# Altium footprint library libreriaPcb.PcbLib: 683 footprints (part 19 of 44)
Each footprint in its own frame and in the unit in brackets; x right, y up, seen from the top. Pads: shape width x height; smd on the part's side, far side on the other; paste and mask are expansions set on the pad; w line width, h text height; cw(c..) or ccw(c..) is an arc to the next point about the centre after c.
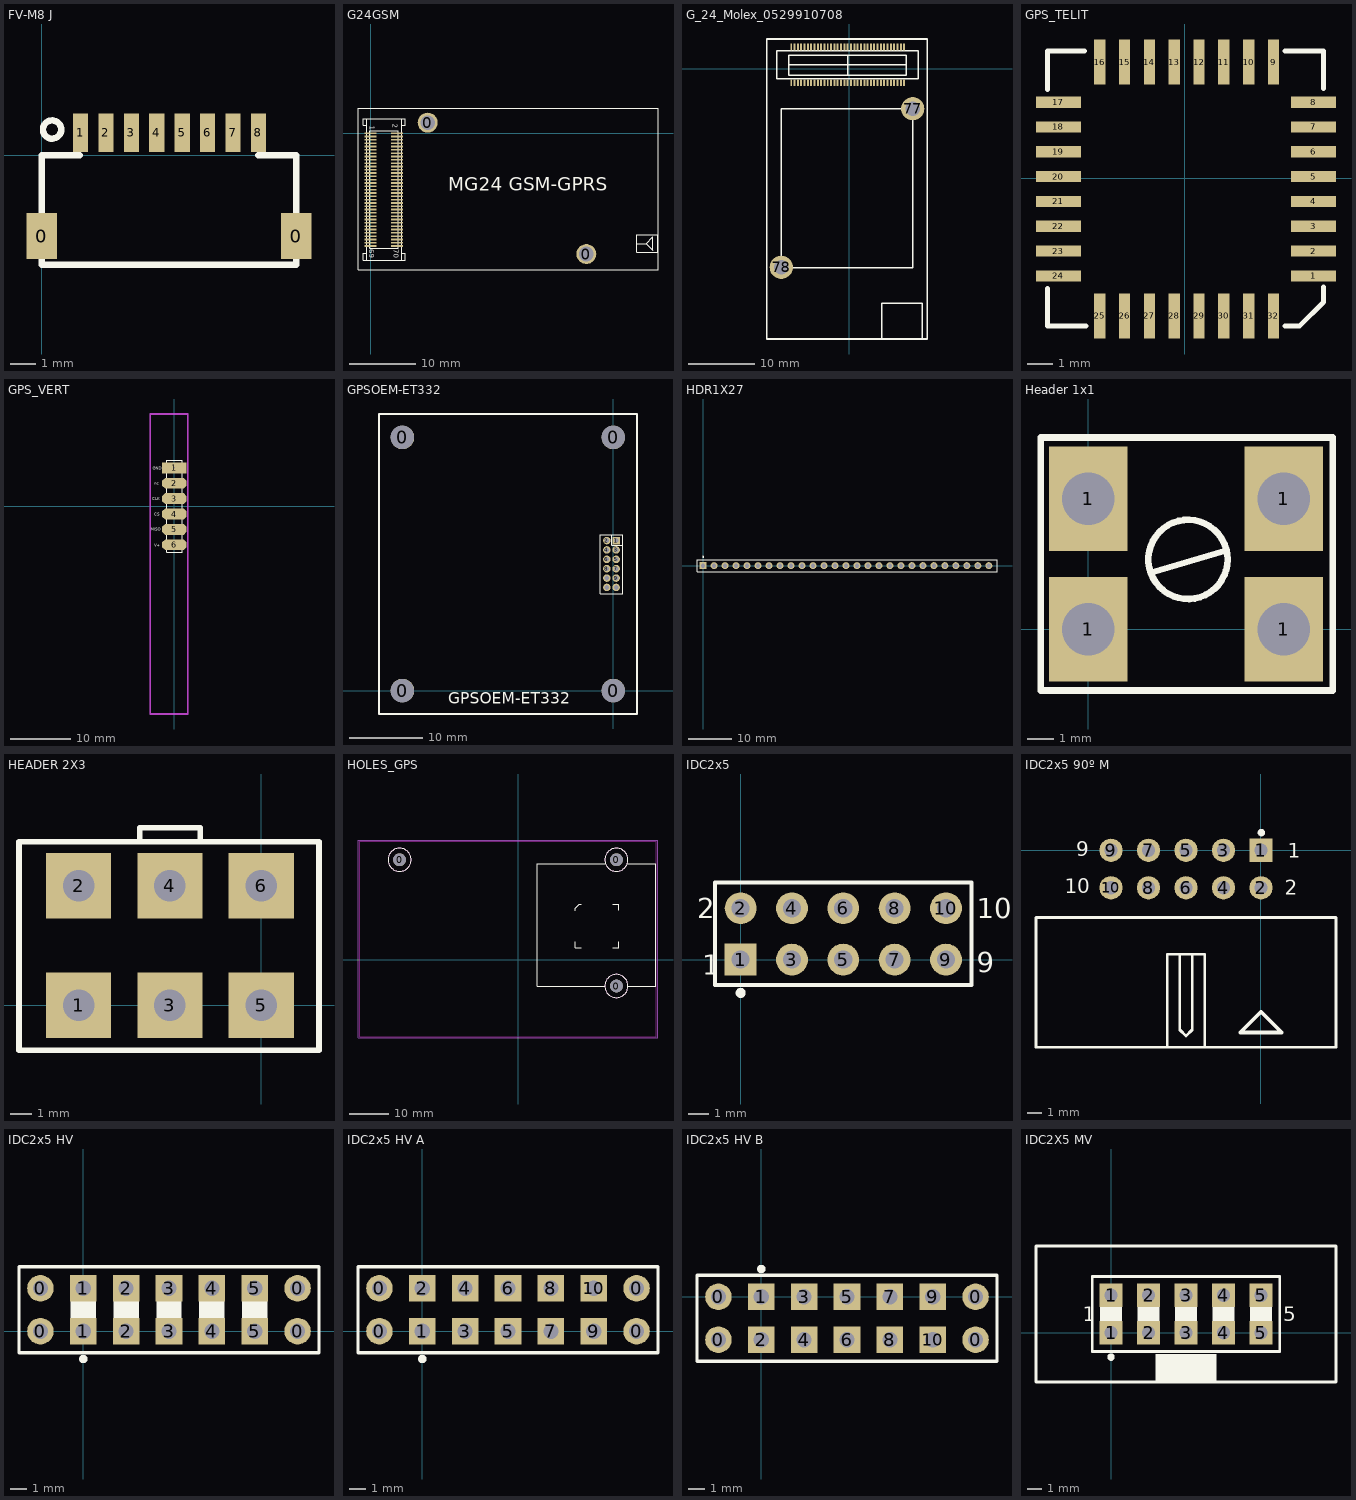
[diagram p18: the footprints below, top view; thin cyan lines are the x and y axes]

## FV-M8 J [mil] "Modulo GPS&Antena CONECTOR"
pads (10):
  rect 47.24x70.87 smd: 0(0,-125) 0(394.06,-125)
  rect 23.62x60 smd: 1(60,35) 2(99.37,35) 3(138.74,35) 4(178.11,35) 5(217.48,35) 6(256.85,35) 7(296.22,35) 8(335.59,35)
Top Overlay:
  circle w10: c15.86,40 r14.14
  lines w10: 59.06,0 0,0 0,-169.29 394.06,-169.29 394.06,0 335,0

## G24GSM [mm]
pads (72):
  round 3 hole 2.2: 0(8.6,1.6) 0(32.5,-18.2)
  rect 1.8x0.25 smd: 1(0,0) 2(4,0) 3(0,-0.5) 4(4,-0.5) 5(0,-1) 6(4,-1) 7(0,-1.5) 8(4,-1.5) 9(0,-2) 10(4,-2) 11(0,-2.5) 12(4,-2.5) 13(0,-3) 14(4,-3) 15(0,-3.5) 16(4,-3.5) 17(0,-4) 18(4,-4) 19(0,-4.5) 20(4,-4.5) 21(0,-5) 22(4,-5) 23(0,-5.5) 24(4,-5.5) 25(0,-6) 26(4,-6) 27(0,-6.5) 28(4,-6.5) 29(0,-7) 30(4,-7) 31(0,-7.5) 32(4,-7.5) 33(0,-8) 34(4,-8) 35(0,-8.5) 36(4,-8.5) 37(0,-9) 38(4,-9) 39(0,-9.5) 40(4,-9.5) 41(0,-10) 42(4,-10) 43(0,-10.5) 44(4,-10.5) 45(0,-11) 46(4,-11) 47(0,-11.5) 48(4,-11.5) 49(0,-12) 50(4,-12) 51(0,-12.5) 52(4,-12.5) 53(0,-13) 54(4,-13) 55(0,-13.5) 56(4,-13.5) 57(0,-14) 58(4,-14) 59(0,-14.5) 60(4,-14.5) 61(0,-15) 62(4,-15) 63(0,-15.5) 64(4,-15.5) 65(0,-16) 66(4,-16) 67(0,-16.5) 68(4,-16.5) 69(0,-17) 70(4,-17)
Top Overlay:
  lines w0.1: 40.1,-16.637 41.529,-16.637 ; -0.6,-19.1 4.7,-19.1 ; -0.6,-19.1 -1.1,-19.1 -1.1,-18.1 -0.6,-18.1 -0.6,-19.1 ; -0.6,-19.1 -0.6,2.2 ; -0.6,2.2 4.7,2.2 ; -0.6,2.2 -1.1,2.2 -1.1,1.2 -0.6,1.2 -0.6,2.2 ; 4.7,-19.1 5.2,-19.1 5.2,-18.1 4.7,-18.1 4.7,-19.1 ; 4.7,-19.1 4.7,2.2 ; 4.7,2.2 5.2,2.2 5.2,1.2 4.7,1.2 4.7,2.2 ; 41.529,-16.637 42.545,-15.621 42.545,-17.653 41.529,-16.637 ; -1.9,-20.6 43.3,-20.6 43.3,3.8 -1.9,3.8 -1.9,-20.6 ; -0.1,-17.3 4.2,-17.3 4.2,0.4 -0.1,0.4 -0.1,-17.3 ; 40.1,-17.9 43.3,-17.9 43.3,-15.3 40.1,-15.3 40.1,-17.9
  text "2" at 3.3,1.4 h0.76
  text "1" at -0.1,1.1 h0.76
  text "70" at 3.5,-17.5 h0.76
  text "69" at -0.2,-17.5 h0.76
  text "MG24 GSM-GPRS" at 11.684,-8.636 h2.03

## G_24_Molex_0529910708 [mm]
pads (72):
  rect 0.3x1 smd: 1(8.25,3.25) 2(8.25,-2.15) 3(7.75,3.25) 4(7.75,-2.15) 5(7.25,3.25) 6(7.25,-2.15) 7(6.75,3.25) 8(6.75,-2.15) 9(6.25,3.25) 10(6.25,-2.15) 11(5.75,3.25) 12(5.75,-2.15) 13(5.25,3.25) 14(5.25,-2.15) 15(4.75,3.25) 16(4.75,-2.15) 17(4.25,3.25) 18(4.25,-2.15) 19(3.75,3.25) 20(3.75,-2.15) 21(3.25,3.25) 22(3.25,-2.15) 23(2.75,3.25) 24(2.75,-2.15) 25(2.25,3.25) 26(2.25,-2.15) 27(1.75,3.25) 28(1.75,-2.15) 29(1.25,3.25) 30(1.25,-2.15) 31(0.75,3.25) 32(0.75,-2.15) 33(0.25,3.25) 34(0.25,-2.15) 35(-0.25,3.25) 36(-0.25,-2.15) 37(-0.75,3.25) 38(-0.75,-2.15) 39(-1.25,3.25) 40(-1.25,-2.15) 41(-1.75,3.25) 42(-1.75,-2.15) 43(-2.25,3.25) 44(-2.25,-2.15) 45(-2.75,3.25) 46(-2.75,-2.15) 47(-3.25,3.25) 48(-3.25,-2.15) 49(-3.75,3.25) 50(-3.75,-2.15) 51(-4.25,3.25) 52(-4.25,-2.15) 53(-4.75,3.25) 54(-4.75,-2.15) 55(-5.25,3.25) 56(-5.25,-2.15) 57(-5.75,3.25) 58(-5.75,-2.15) 59(-6.25,3.25) 60(-6.25,-2.15) 61(-6.75,3.25) 62(-6.75,-2.15) 63(-7.25,3.25) 64(-7.25,-2.15) 65(-7.75,3.25) 66(-7.75,-2.15) 67(-8.25,3.25) 68(-8.25,-2.15) 69(-8.75,3.25) 70(-8.75,-2.15)
  round 3.5 hole 2.2: 77(9.55,-6.05) 78(-10.25,-29.95)
Top Overlay:
  lines w0.2: -9.1,0.55 8.6,0.55 ; -0.25,-1 -0.25,2 ; -10.9,-1.55 -9.1,-1.55 8.6,-1.55 10.4,-1.55 10.4,2.65 8.6,2.65 -9.1,2.65 -10.9,2.65 -10.9,-1.55 ; -9.1,-1 -9.1,0 -9.1,2 8.6,2 8.6,-1 -9.1,-1
  lines w0.254: 4.9,-40.75 4.9,-35.35 7.95,-35.35 11,-35.35 11,-40.7 ; -12.45,-40.75 -12.45,-6.05 -12.45,4.45 -10.25,4.45 -2.05,4.45 11.75,4.45 11.75,-40.75 -12.45,-40.75 ; -10.25,-29.95 -10.2,-30 9.55,-30 9.55,-6.05 -10.25,-6.05 -10.25,-29.95
3D body: height 3, standoff 1.6, extent -12.577,-40.877 11.877,4.577

## GPS_TELIT [mm]
pads (32):
  rect 1.8x0.45 smd: 1(5.154,-3.907) 2(5.154,-2.914) 3(5.154,-1.921) 4(5.154,-0.928) 5(5.154,0.064) 6(5.154,1.057) 7(5.154,2.05) 8(5.154,3.043) 17(-5.046,3.043) 18(-5.046,2.05) 19(-5.046,1.057) 20(-5.046,0.064) 21(-5.046,-0.928) 22(-5.046,-1.921) 23(-5.046,-2.914) 24(-5.046,-3.907)
  rect 0.45x1.8 smd: 9(3.554,4.643) 10(2.561,4.643) 11(1.568,4.643) 12(0.575,4.643) 13(-0.417,4.643) 14(-1.41,4.643) 15(-2.403,4.643) 16(-3.396,4.643) 25(-3.396,-5.507) 26(-2.403,-5.507) 27(-1.41,-5.507) 28(-0.417,-5.507) 29(0.575,-5.507) 30(1.568,-5.507) 31(2.561,-5.507) 32(3.554,-5.507)
Top Overlay:
  lines w0.2: -5.496,-4.407 -5.496,-5.907 -3.946,-5.907 ; -5.496,3.543 -5.496,5.093 -3.996,5.093 ; 4.004,-5.907 4.604,-5.907 5.554,-4.957 5.554,-4.357 ; 4.004,5.093 5.554,5.093 5.554,3.593
3D body: height 2, standoff 0.2, extent -5.446,-5.907 5.554,5.093
3D body: height 6.1, standoff 1.2, extent -4.096,-4.407 4.154,3.593

## GPS_VERT [mm]
pads (6):
  rect 4x1.8 hole 0.2: 1(0,6.35)
  oct 4x1.8 hole 0.25: 2(0,3.81) 3(0,1.27) 4(0,-1.27) 5(0,-3.81) 6(0,-6.35)
Top Overlay:
  lines w0.2: -1.27,-7.62 1.27,-7.62 1.27,7.62 -1.27,7.62 -1.27,-7.62
  text "V+" at -3.277,-6.706 h0.5
  text "MISO" at -3.861,-4.039 h0.5
  text "CS" at -3.277,-1.524 h0.5
  text "CLK" at -3.683,0.991 h0.5
  text "nc" at -3.353,3.581 h0.5
  text "GND" at -3.581,6.045 h0.5
Mechanical 1 keep-out:
  lines w0.254: -3.988,-34.29 -3.988,15.24 2.235,15.24 2.235,-34.29 -3.988,-34.29
3D body: height 2, standoff 0.2, extent -1.25,-7.595 1.25,-0.02
3D body: height 2, standoff 0.2, extent -1.25,0.025 1.25,7.6
3D body: height 10, standoff -1, extent -0.399,-6.75 0.399,-5.953
3D body: height 10, standoff -1, extent -0.399,-4.21 0.399,-3.413
3D body: height 10, standoff -1, extent -0.399,-1.67 0.399,-0.873
3D body: height 10, standoff -1, extent -0.399,0.87 0.399,1.667
3D body: height 10, standoff -1, extent -0.399,3.41 0.399,4.207
3D body: height 10, standoff -1, extent -0.399,5.95 0.399,6.747

## GPSOEM-ET332 [mil] "GPS"
pads (16):
  round 125 hole 125: 0(-1125,0) 0(-1125,1350) 0(0,0) 0(0,1350)
  rect 40x40 hole 25.59: 1(15,800)
  round 40 hole 25.59: 2(-35,800) 3(15,750) 4(-35,750) 5(15,700) 6(-35,700) 7(15,650) 8(-35,650) 9(15,600) 10(-35,600) 11(15,550) 12(-35,550)
Top Overlay:
  lines w5: -10,830 -10,775 50,775 ; -70,515 50,515 50,830 -70,830 -70,515
  lines w10: -1249.02,-125 125,-125 125,1475 -1249.02,1475 -1249.02,-125
  text "GPSOEM-ET332" at -880,-70 h60

## HDR1X27 [mm]
pads (27):
  rect 1.6x1.6 hole 0.99: 1(0,0)
  round 1.6 hole 0.99: 2(2.54,0) 3(5.08,0) 4(7.62,0) 5(10.16,0) 6(12.7,0) 7(15.24,0) 8(17.78,0) 9(20.32,0) 10(22.86,0) 11(25.4,0) 12(27.94,0) 13(30.48,0) 14(33.02,0) 15(35.56,0) 16(38.1,0) 17(40.64,0) 18(43.18,0) 19(45.72,0) 20(48.26,0) 21(50.8,0) 22(53.34,0) 23(55.88,0) 24(58.42,0) 25(60.96,0) 26(63.5,0) 27(66.04,0)
Top Overlay:
  circle w0.25: c0,2.05 r0.125
  lines w0.2: -1.4,-1.4 67.92,-1.4 67.92,1.4 -1.4,1.4 -1.4,-1.4

## Header 1x1 [mm]
pads (4):
  rect 3x4 hole 2: 1(0,0) 1(0,5) 1(7.5,0) 1(7.5,5)
Top Overlay:
  circle w0.254: c3.825,2.675 r1.519
  lines w0.254: 2.425,2.175 5.225,3 ; -1.825,-2.35 -1.825,7.35 9.375,7.35 9.375,-2.35 -1.825,-2.35
3D body: height 6, standoff 0, extent -1.15,-2.4 1.25,7.475
3D body: height 6, standoff 0, extent 6.375,-2.4 8.775,7.475
3D body: height 7, standoff 6, extent -1.15,-2.4 8.775,7.475
3D body: height 8, standoff 7, extent 1.828,0.541 5.812,4.534

## HEADER 2X3 [mm] "HEADER 2X3V 4,2mm"
pads (6):
  rect 3x3 hole 1.45: 1(-8.4,0) 2(-8.4,5.5) 3(-4.2,0) 4(-4.2,5.5) 5(0,0) 6(0,5.5)
Top Overlay:
  lines w0.254: -5.588,7.532 -5.588,8.167 -2.794,8.167 -2.794,7.532 ; -11.142,-2.068 -11.142,7.532 2.658,7.532 2.658,-2.068 -11.142,-2.068

## HOLES_GPS [mm]
pads (3):
  round 3.25 hole 3.25: 0(-30.15,25.298) 0(24.841,-6.706) 0(24.841,25.298)
Top Overlay:
  circle w0.254: c-30.15,25.298 r2.921
  circle w0.254: c24.841,25.298 r2.921
  circle w0.254: c24.841,-6.706 r2.921
  lines w0.2: 14.408,4.463 14.408,2.963 15.958,2.963 ; 14.408,12.413 14.408,13.013 15.358,13.963 15.958,13.963 ; 23.908,13.963 25.458,13.963 25.458,12.463 ; 23.958,2.963 25.458,2.963 25.458,4.513
  lines w0.254: 21.92,-6.706 4.775,-6.706 4.775,24.028 4.775,24.282 22.047,24.282 ; 27.635,24.282 34.874,24.282 34.874,-6.706 27.762,-6.706
Keep-Out Layer:
  circle w0.254: c-30.15,25.298 r2.921
  circle w0.254: c24.841,25.298 r2.921
  circle w0.254: c24.841,-6.706 r2.921
  lines w0.254: -40.31,-19.533 35.001,-19.533 35.001,29.997 -40.31,29.997 -40.31,-19.533
Mechanical 1:
  lines w0.254: -40.691,-19.787 -40.691,30.213 35.382,30.213 35.382,-19.787 -40.691,-19.787

## IDC2x5 [mil]
pads (10):
  rect 62x62 hole 35.43: 1(0,0)
  round 62 hole 35.43: 2(0,100) 3(100,0) 4(100,100) 5(200,0) 6(200,100) 7(300,0) 8(300,100) 9(400,0) 10(400,100)
Top Overlay:
  circle w9.84: c0.08,-65 r4.92
  lines w7.87: -50,-50 450,-50 450,150 -50,150 -50,-50
  text "2" at -85,80 h39.37
  text "1" at -75,-30 h39.37
  text "10" at 460,80 h39.37
  text "9" at 460,-25 h39.37

## IDC2x5 90º M [mil]
pads (10):
  rect 62x62 hole 35.43: 1(0,0)
  round 62 hole 35.43: 2(0,-100) 3(-100,0) 4(-100,-100) 5(-200,0) 6(-200,-100) 7(-300,0) 8(-300,-100) 9(-400,0) 10(-400,-100)
Top Overlay:
  circle w9.84: c0.98,47.24 r4.92
  lines w7.87: -600,-525 -600,-178.74 200,-178.74 200,-525 ; -599.8,-525.2 199.8,-525.2 ; -250,-525.2 -250,-277.17 -150,-277.17 -150,-525.2 ; -216.67,-277.17 -216.67,-478.33 -200,-495 -183.33,-478.33 -183.33,-277.17
  lines w10: -55.12,-485.83 55.12,-485.83 0,-430.71 -55.12,-485.83
  text "9" at -492.13,-15.75 h39.37
  text "10" at -523.62,-114.17 h39.37
  text "1" at 70.87,-19.68 h39.37
  text "2" at 62.99,-118.11 h39.37

## IDC2x5 HV [mil]
pads (14):
  round 62 hole 35.43: 0(-100,0) 0(-100,100) 0(500,0) 0(500,100)
  rect 62x62 hole 35.43: 1(0,0) 1(0,100) 2(100,0) 2(100,100) 3(200,0) 3(200,100) 4(300,0) 4(300,100) 5(400,0) 5(400,100)
Top Overlay:
  circle w9.84: c0.08,-65 r4.92
  lines w7.87: -150,-50 550,-50 550,150 -150,150 -150,-50
  lines w59.06: 0,0 0,100 ; 100,0 100,100 ; 200,0 200,100 ; 300,0 300,100 ; 400,0 400,100

## IDC2x5 HV A [mil]
pads (14):
  round 62 hole 35.43: 0(-100,0) 0(-100,100) 0(500,0) 0(500,100)
  rect 62x62 hole 35.43: 1(0,0) 2(0,100) 3(100,0) 4(100,100) 5(200,0) 6(200,100) 7(300,0) 8(300,100) 9(400,0) 10(400,100)
Top Overlay:
  circle w9.84: c0.08,-65 r4.92
  lines w7.87: -150,-50 550,-50 550,150 -150,150 -150,-50

## IDC2x5 HV B [mil]
pads (14):
  round 62 hole 35.43: 0(-100,-100) 0(-100,0) 0(500,-100) 0(500,0)
  rect 62x62 hole 35.43: 1(0,0) 2(0,-100) 3(100,0) 4(100,-100) 5(200,0) 6(200,-100) 7(300,0) 8(300,-100) 9(400,0) 10(400,-100)
Top Overlay:
  circle w9.84: c0.08,65 r4.92
  lines w7.87: -150,-150 550,-150 550,50 -150,50 -150,-150

## IDC2X5 MV [mil]
pads (10):
  rect 62x62 hole 35.43: 1(0,0) 1(0,100) 2(100,0) 2(100,100) 3(200,0) 3(200,100) 4(300,0) 4(300,100) 5(400,0) 5(400,100)
Top Overlay:
  circle w9.84: c0.08,-65 r4.92
  rectangle: 119.29,-131.1 280.71,-56.3
  lines w7.87: -200,-131.1 600,-131.1 600,231.1 -200,231.1 -200,-131.1 ; -50,-50 -50,150 450,150 450,-50 -50,-50
  lines w59.06: 0,0 0,100 ; 100,0 100,100 ; 200,0 200,100 ; 300,0 300,100 ; 400,0 400,100
  text "5" at 460,30 h39.37
  text "1" at -75,30 h39.37